# Altium schematic symbol library 74HC164.Schlib: 1 symbol
Pins are listed as number, name and electrical type; pins without a type are passive.

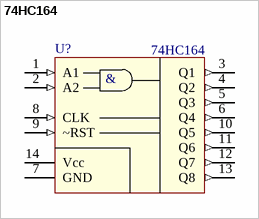
[diagram p0: symbol 74HC164]

## 74HC164
designator U?
Восьмиразрядный сдвиговый регистр; Назначение: Восьмиразрядный последовательный сдвиговый регистр с параллельным выходом; Наименование: 74HC164
footprint SO-14n
pins: 1 A1 (in), 2 A2 (in), 3 Q1 (out), 4 Q2 (out), 5 Q3 (out), 6 Q4 (out), 7 GND (power), 8 CLK (in), 9 ~RST (in), 10 Q5 (out), 11 Q6 (out), 12 Q7 (out), 13 Q8 (out), 14 Vcc (power)
text: &